# Altium schematic symbol library XSS_WirelessModule.SchLib: 17 symbols
Pins are listed as number, name and electrical type; pins without a type are passive.

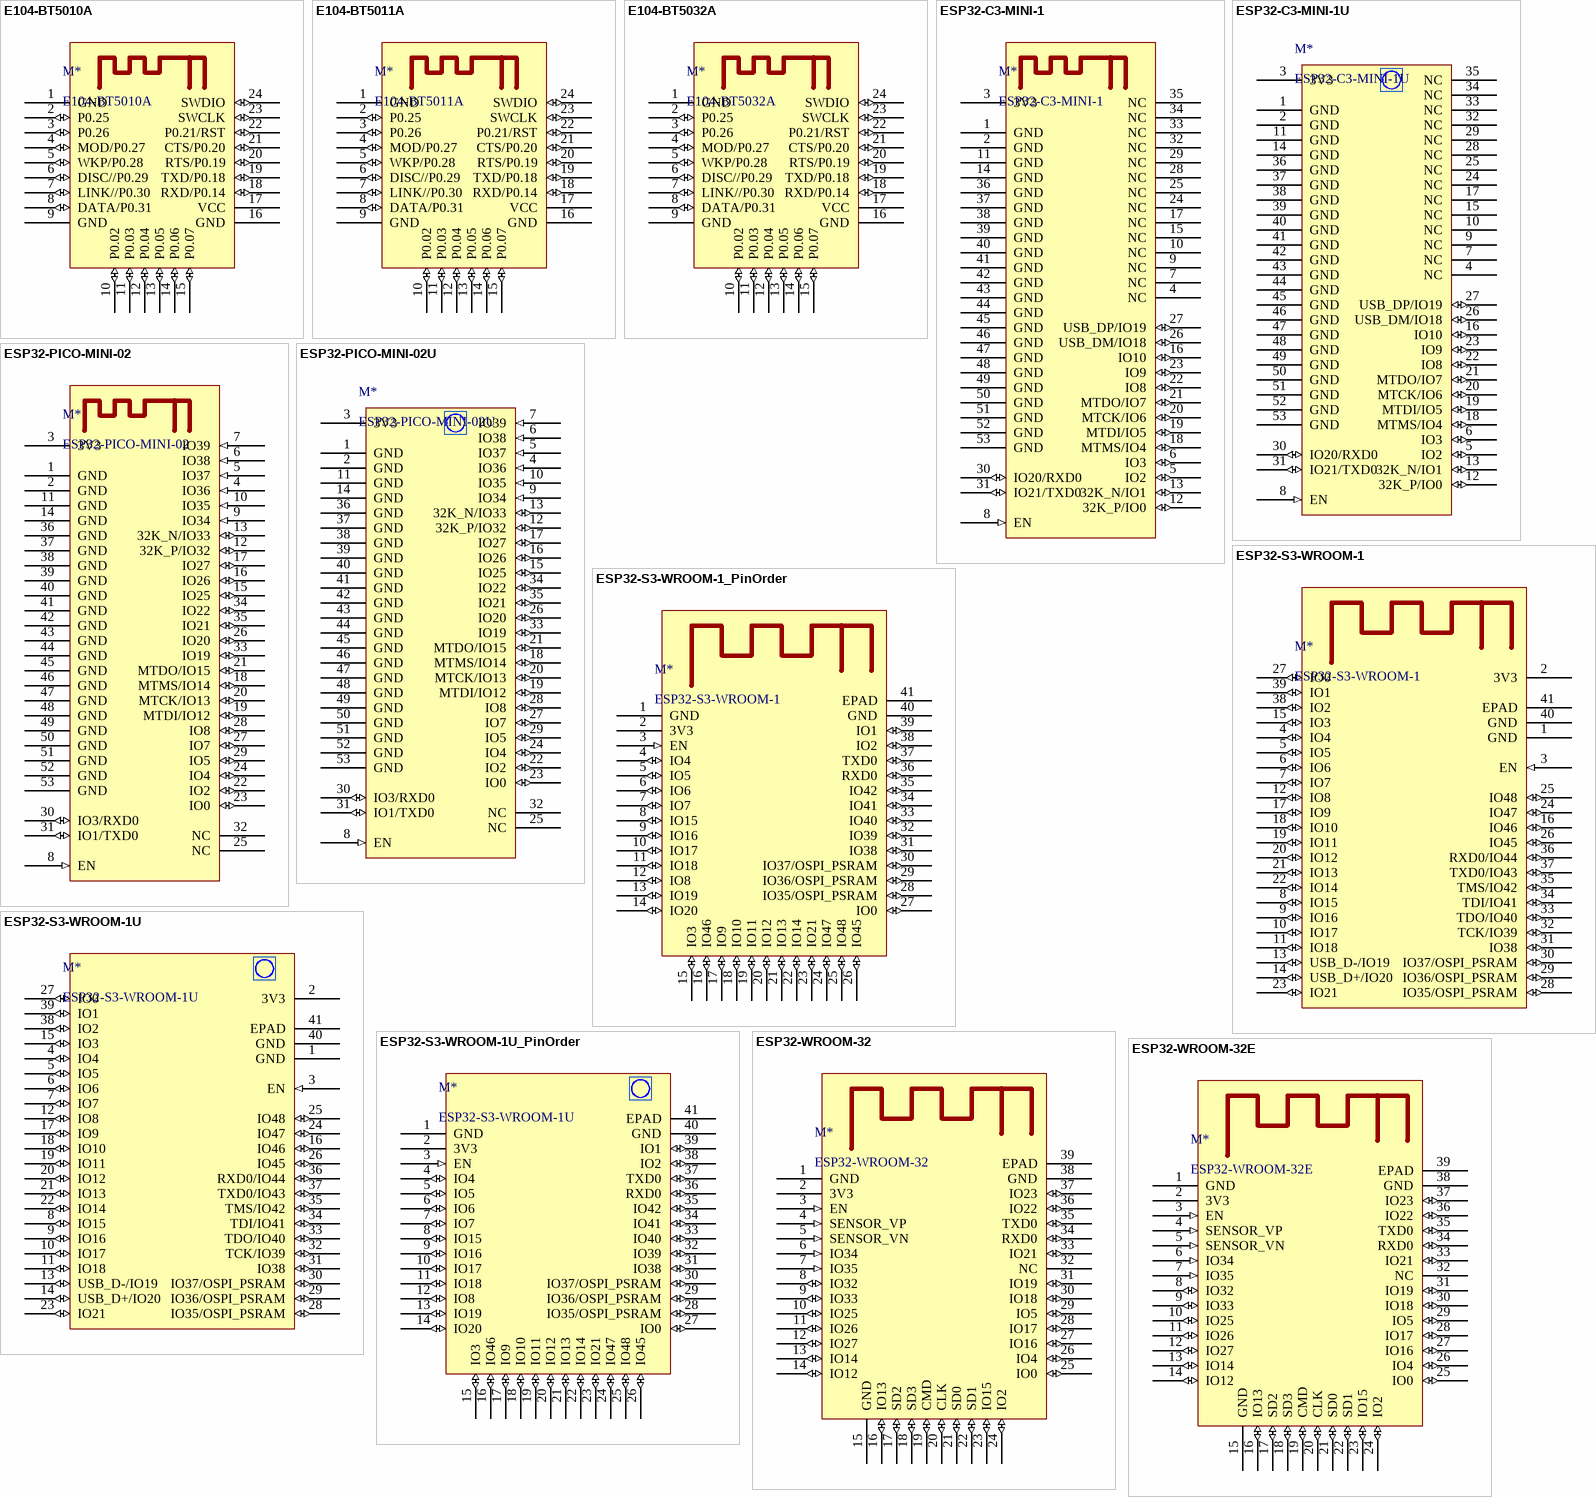
[diagram p0: symbols E104-BT5010A to ESP32-WROOM-32E]

## E104-BT5010A
designator M*
nrf52810 module. mode by EByte, E104-BT5010A, Wireless serial modules,11.5mm x 16mm
footprint E104-BT5010A (Ebyte,E104-BT5010A, NRF52810,11.5x16x2.32)
pins: 1 GND, 2 P0.25 (io), 3 P0.26 (io), 4 MOD/P0.27 (io), 5 WKP/P0.28 (io), 6 DISC//P0.29 (io), 7 LINK//P0.30 (io), 8 DATA/P0.31 (io), 9 GND, 10 P0.02 (io), 11 P0.03 (io), 12 P0.04 (io), 13 P0.05 (io), 14 P0.06 (io), 15 P0.07 (io), 16 GND, 17 VCC (power), 18 RXD/P0.14 (io), 19 TXD/P0.18 (io), 20 RTS/P0.19 (io), 21 CTS/P0.20 (io), 22 P0.21/RST (io), 23 SWCLK (io), 24 SWDIO (io)

## E104-BT5011A
designator M*
nrf52811 module. mode by EByte, E104-BT5011A, Wireless serial modules
footprint E104-BT5011A (Ebyte,E104-BT5011A, NRF52811,11.5x16x2.32)
footprint E104-BT5011A_Font (Ebyte,E104-BT5011A, NRF52811,11.5x16x2.32)
pins: 1 GND, 2 P0.25 (io), 3 P0.26 (io), 4 MOD/P0.27 (io), 5 WKP/P0.28 (io), 6 DISC//P0.29 (io), 7 LINK//P0.30 (io), 8 DATA/P0.31 (io), 9 GND, 10 P0.02 (io), 11 P0.03 (io), 12 P0.04 (io), 13 P0.05 (io), 14 P0.06 (io), 15 P0.07 (io), 16 GND, 17 VCC (power), 18 RXD/P0.14 (io), 19 TXD/P0.18 (io), 20 RTS/P0.19 (io), 21 CTS/P0.20 (io), 22 P0.21/RST (io), 23 SWCLK (io), 24 SWDIO (io)

## E104-BT5032A
designator M*
nrf52832 module. mode by EByte, E104-BT5032A, Wireless serial modules,11.5mm x 16mm
footprint E104-BT5032A (Ebyte,E104-BT5032A, NRF52832,11.5x16x2.32)
pins: 1 GND, 2 P0.25 (io), 3 P0.26 (io), 4 MOD/P0.27 (io), 5 WKP/P0.28 (io), 6 DISC//P0.29 (io), 7 LINK//P0.30 (io), 8 DATA/P0.31 (io), 9 GND, 10 P0.02 (io), 11 P0.03 (io), 12 P0.04 (io), 13 P0.05 (io), 14 P0.06 (io), 15 P0.07 (io), 16 GND, 17 VCC (power), 18 RXD/P0.14 (io), 19 TXD/P0.18 (io), 20 RTS/P0.19 (io), 21 CTS/P0.20 (io), 22 P0.21/RST (io), 23 SWCLK (io), 24 SWDIO (io)

## ESP32-C3-MINI-1
designator M*
ESP32-C3-MINI-1 is a general-purpose Wi-Fi and Bluetooth LE module. This module features a rich set of peripherals and a small size, which makes it an ideal choice for smart home, industrial automation, health care, consumer electronics, etc.
footprint ESP32-C3-MINI-1 (ESP32-C3-MINI-1 package, 13.2x16.6x2.4 , PCB Antenna,53 pins)
pins: 1 GND (power), 2 GND (power), 3 3V3 (power), 4 NC, 5 IO2 (io), 6 IO3 (io), 7 NC, 8 EN (in), 9 NC, 10 NC, 11 GND (power), 12 32K_P/IO0 (io), 13 32K_N/IO1 (io), 14 GND (power), 15 NC, 16 IO10 (io), 17 NC, 18 MTMS/IO4 (io), 19  MTDI/IO5 (io), 20 MTCK/IO6 (io), 21  MTDO/IO7 (io), 22 IO8 (io), 23 IO9 (io), 24 NC, 25 NC, 26  USB_DM/IO18 (io), 27  USB_DP/IO19 (io), 28 NC, 29 NC, 30 IO20/RXD0 (io), 31 IO21/TXD0 (io), 32 NC, 33 NC, 34 NC, 35 NC, 36 GND (power), 37 GND (power), 38 GND (power), 39 GND (power), 40 GND (power), 41 GND (power), 42 GND (power), 43 GND (power), 44 GND (power), 45 GND (power), 46 GND (power), 47 GND (power), 48 GND (power), 49 GND (power), 50 GND (power), 51 GND (power), 52 GND (power), 53 GND (power)

## ESP32-C3-MINI-1U
designator M*
ESP32-C3-MINI-1U is a powerful, generic Wi-Fi + Bluetooth LE MCU modules that have a single core CPU, a rich set of peripherals, and with an U.FL connector for external antenna. According to different chips integrated, ESP32-C3-MINI-1U has two variants operating in different ambient temperature. It is an ideal choice for smart homes, industrial automation, health care, consumer electronics, etc.
footprint ESP32-C3-MINI-1U (ESP32-C3-MINI-1U package, 13.2x12.5x2.4 , PCB Antenna)
pins: 1 GND (power), 2 GND (power), 3 3V3 (power), 4 NC, 5 IO2 (io), 6 IO3 (io), 7 NC, 8 EN (in), 9 NC, 10 NC, 11 GND (power), 12 32K_P/IO0 (io), 13 32K_N/IO1 (io), 14 GND (power), 15 NC, 16 IO10 (io), 17 NC, 18 MTMS/IO4 (io), 19  MTDI/IO5 (io), 20 MTCK/IO6 (io), 21  MTDO/IO7 (io), 22 IO8 (io), 23 IO9 (io), 24 NC, 25 NC, 26  USB_DM/IO18 (io), 27  USB_DP/IO19 (io), 28 NC, 29 NC, 30 IO20/RXD0 (io), 31 IO21/TXD0 (io), 32 NC, 33 NC, 34 NC, 35 NC, 36 GND (power), 37 GND (power), 38 GND (power), 39 GND (power), 40 GND (power), 41 GND (power), 42 GND (power), 43 GND (power), 44 GND (power), 45 GND (power), 46 GND (power), 47 GND (power), 48 GND (power), 49 GND (power), 50 GND (power), 51 GND (power), 52 GND (power), 53 GND (power)

## ESP32-PICO-MINI-02
designator M*
ESP32-PICO-MINI-02 is a small-sized powerful Wi-Fi+Bluetooth®+Bluetooth® LE MCU module. It is based on ESP32-PICO-V3-02, a System-in-Package (SiP) device, which integrates an 8 MB SPI flash, 2 MB SPI Pseudo static RAM (PSRAM) and 40 MHz oscillator. This module targets a wide variety of IoT applications, ranging from home automation, smart building, consumer electronics to industrial control, and it is suitable for intelligent speakers, speech recognition toys, intelligent gateway and Ethernet, etc.
footprint ESP32-PICO-MINI-02 (ESP32-PICO-MINI-02 package, 13.2x16.6x2.4 , PCB Antenna,53 pins)
pins: 1 GND (power), 2 GND (power), 3 3V3 (power), 4 IO36 (in), 5 IO37 (in), 6 IO38 (in), 7 IO39 (in), 8 EN (in), 9 IO34 (in), 10 IO35 (in), 11 GND (power), 12 32K_P/IO32 (io), 13 32K_N/IO33 (io), 14 GND (power), 15 IO25 (io), 16 IO26 (io), 17 IO27 (io), 18 MTMS/IO14 (io), 19 MTDI/IO12 (io), 20 MTCK/IO13 (io), 21 MTDO/IO15 (io), 22 IO2 (io), 23 IO0 (io), 24 IO4 (io), 25 NC, 26 IO20 (io), 27 IO7 (io), 28 IO8 (io), 29 IO5 (io), 30 IO3/RXD0 (io), 31 IO1/TXD0 (io), 32 NC, 33 IO19 (io), 34 IO22 (io), 35 IO21 (io), 36 GND (power), 37 GND (power), 38 GND (power), 39 GND (power), 40 GND (power), 41 GND (power), 42 GND (power), 43 GND (power), 44 GND (power), 45 GND (power), 46 GND (power), 47 GND (power), 48 GND (power), 49 GND (power), 50 GND (power), 51 GND (power), 52 GND (power), 53 GND (power)

## ESP32-PICO-MINI-02U
designator M*
ESP32-PICO-MINI-02U is a small-sized powerful Wi-Fi+Bluetooth®+Bluetooth® LE MCU module. It is based on ESP32-PICO-V3-02, a System-in-Package (SiP) device, which integrates an 8 MB SPI flash, 2 MB SPI Pseudo static RAM (PSRAM) and 40 MHz oscillator. This module targets a wide variety of IoT applications, ranging from home automation, smart building, consumer electronics to industrial control, and it is suitable for intelligent speakers, speech recognition toys, intelligent gateway and Ethernet, etc.
footprint ESP32-PICO-MINI-02U (ESP32-PICO-MINI-02U package, 13.2x11.2x2.4 , PCB Antenna)
pins: 1 GND (power), 2 GND (power), 3 3V3 (power), 4 IO36 (in), 5 IO37 (in), 6 IO38 (in), 7 IO39 (in), 8 EN (in), 9 IO34 (in), 10 IO35 (in), 11 GND (power), 12 32K_P/IO32 (io), 13 32K_N/IO33 (io), 14 GND (power), 15 IO25 (io), 16 IO26 (io), 17 IO27 (io), 18 MTMS/IO14 (io), 19 MTDI/IO12 (io), 20 MTCK/IO13 (io), 21 MTDO/IO15 (io), 22 IO2 (io), 23 IO0 (io), 24 IO4 (io), 25 NC, 26 IO20 (io), 27 IO7 (io), 28 IO8 (io), 29 IO5 (io), 30 IO3/RXD0 (io), 31 IO1/TXD0 (io), 32 NC, 33 IO19 (io), 34 IO22 (io), 35 IO21 (io), 36 GND (power), 37 GND (power), 38 GND (power), 39 GND (power), 40 GND (power), 41 GND (power), 42 GND (power), 43 GND (power), 44 GND (power), 45 GND (power), 46 GND (power), 47 GND (power), 48 GND (power), 49 GND (power), 50 GND (power), 51 GND (power), 52 GND (power), 53 GND (power)

## ESP32-S3-WROOM-1
designator M*
ESP32-S3-WROOM-1 is a powerful, generic Wi-Fi + Bluetooth LE MCU module that has a Dual core CPU, a rich set of peripherals, and provides acceleration for neural network computing and signal processing workloads. It is an ideal choice for a wide variety of application scenarios related to AI + Internet of Things (AIoT), such as wake word detection and speech commands recognition, face detection and recognition, smart home, smart appliance, smart control panel, smart speaker etc.
footprint ESP32-S3-WROOM-1 (Espressif ESP32-S3-WROOM-1 module,18x25.5x3.1)
pins: 1 GND (power), 2 3V3 (power), 3 EN (in), 4 IO4 (io), 5 IO5 (io), 6 IO6 (io), 7 IO7 (io), 8 IO15 (io), 9 IO16 (io), 10 IO17 (io), 11 IO18 (io), 12 IO8 (io), 13 USB_D-/IO19 (io), 14 USB_D+/IO20 (io), 15 IO3 (io), 16 IO46 (io), 17 IO9 (io), 18 IO10 (io), 19 IO11 (io), 20 IO12 (io), 21 IO13 (io), 22 IO14 (io), 23 IO21 (io), 24 IO47 (io), 25 IO48 (io), 26 IO45 (io), 27 IO0 (io), 28 IO35/OSPI_PSRAM (io), 29 IO36/OSPI_PSRAM (io), 30 IO37/OSPI_PSRAM (io), 31 IO38 (io), 32 TCK/IO39 (io), 33 TDO/IO40 (io), 34 TDI/IO41 (io), 35 TMS/IO42 (io), 36 RXD0/IO44 (io), 37 TXD0/IO43 (io), 38 IO2 (io), 39 IO1 (io), 40 GND (power), 41 EPAD (power)

## ESP32-S3-WROOM-1_PinOrder
designator M*, comment ESP32-S3-WROOM-1
ESP32-S3-WROOM-1 is a powerful, generic Wi-Fi + Bluetooth LE MCU module that has a Dual core CPU, a rich set of peripherals, and provides acceleration for neural network computing and signal processing workloads. It is an ideal choice for a wide variety of application scenarios related to AI + Internet of Things (AIoT), such as wake word detection and speech commands recognition, face detection and recognition, smart home, smart appliance, smart control panel, smart speaker etc.
footprint ESP32-S3-WROOM-1 (Espressif ESP32-S3-WROOM-1 module,18x25.5x3.1)
pins: 1 GND (power), 2 3V3 (power), 3 EN (in), 4 IO4 (io), 5 IO5 (io), 6 IO6 (io), 7 IO7 (io), 8 IO15 (io), 9 IO16 (io), 10 IO17 (io), 11 IO18 (io), 12 IO8 (io), 13 IO19 (io), 14 IO20 (io), 15 IO3 (io), 16 IO46 (io), 17 IO9 (io), 18 IO10 (io), 19 IO11 (io), 20 IO12 (io), 21 IO13 (io), 22 IO14 (io), 23 IO21 (io), 24 IO47 (io), 25 IO48 (io), 26 IO45 (io), 27 IO0 (io), 28 IO35/OSPI_PSRAM (io), 29 IO36/OSPI_PSRAM (io), 30 IO37/OSPI_PSRAM (io), 31 IO38 (io), 32 IO39 (io), 33 IO40 (io), 34 IO41 (io), 35 IO42 (io), 36 RXD0 (io), 37 TXD0 (io), 38 IO2 (io), 39 IO1 (io), 40 GND (power), 41 EPAD (power)

## ESP32-S3-WROOM-1U
designator M*
ESP32-S3-WROOM-1U is a powerful, generic Wi-Fi + Bluetooth LE MCU module that has a Dual core CPU, a rich set of peripherals, and provides acceleration for neural network computing and signal processing workloads. It is an ideal choice for a wide variety of application scenarios related to AI + Internet of Things (AIoT), such as wake word detection and speech commands recognition, face detection and recognition, smart home, smart appliance, smart control panel, smart speaker etc.
footprint ESP32-S3-WROOM-1U (Espressif ESP32-S3-WROOM-1U module,18x19.2x3.1)
pins: 1 GND (power), 2 3V3 (power), 3 EN (in), 4 IO4 (io), 5 IO5 (io), 6 IO6 (io), 7 IO7 (io), 8 IO15 (io), 9 IO16 (io), 10 IO17 (io), 11 IO18 (io), 12 IO8 (io), 13 USB_D-/IO19 (io), 14 USB_D+/IO20 (io), 15 IO3 (io), 16 IO46 (io), 17 IO9 (io), 18 IO10 (io), 19 IO11 (io), 20 IO12 (io), 21 IO13 (io), 22 IO14 (io), 23 IO21 (io), 24 IO47 (io), 25 IO48 (io), 26 IO45 (io), 27 IO0 (io), 28 IO35/OSPI_PSRAM (io), 29 IO36/OSPI_PSRAM (io), 30 IO37/OSPI_PSRAM (io), 31 IO38 (io), 32 TCK/IO39 (io), 33 TDO/IO40 (io), 34 TDI/IO41 (io), 35 TMS/IO42 (io), 36 RXD0/IO44 (io), 37 TXD0/IO43 (io), 38 IO2 (io), 39 IO1 (io), 40 GND (power), 41 EPAD (power)

## ESP32-S3-WROOM-1U_PinOrder
designator M*, comment ESP32-S3-WROOM-1U
ESP32-S3-WROOM-1 is a powerful, generic Wi-Fi + Bluetooth LE MCU module that has a Dual core CPU, a rich set of peripherals, and provides acceleration for neural network computing and signal processing workloads. It is an ideal choice for a wide variety of application scenarios related to AI + Internet of Things (AIoT), such as wake word detection and speech commands recognition, face detection and recognition, smart home, smart appliance, smart control panel, smart speaker etc.
footprint ESP32-S3-WROOM-1U (Espressif ESP32-S3-WROOM-1U module,18x19.2x3.1)
pins: 1 GND (power), 2 3V3 (power), 3 EN (in), 4 IO4 (io), 5 IO5 (io), 6 IO6 (io), 7 IO7 (io), 8 IO15 (io), 9 IO16 (io), 10 IO17 (io), 11 IO18 (io), 12 IO8 (io), 13 IO19 (io), 14 IO20 (io), 15 IO3 (io), 16 IO46 (io), 17 IO9 (io), 18 IO10 (io), 19 IO11 (io), 20 IO12 (io), 21 IO13 (io), 22 IO14 (io), 23 IO21 (io), 24 IO47 (io), 25 IO48 (io), 26 IO45 (io), 27 IO0 (io), 28 IO35/OSPI_PSRAM (io), 29 IO36/OSPI_PSRAM (io), 30 IO37/OSPI_PSRAM (io), 31 IO38 (io), 32 IO39 (io), 33 IO40 (io), 34 IO41 (io), 35 IO42 (io), 36 RXD0 (io), 37 TXD0 (io), 38 IO2 (io), 39 IO1 (io), 40 GND (power), 41 EPAD (power)

## ESP32-WROOM-32
designator M*
Espressif ESP32 module, 38pins
footprint ESP32-WROOM-32E (Espressif ESP32-WROOM-32E module,18x25.5x3.1)
footprint ESP32-COMPATIBLE (ESP32 package compatible with WROOM and WROVER)
pins: 1 GND (power), 2 3V3 (power), 3 EN (in), 4 SENSOR_VP (in), 5 SENSOR_VN (in), 6 IO34 (in), 7 IO35 (in), 8 IO32 (io), 9 IO33 (io), 10 IO25 (io), 11 IO26 (io), 12 IO27 (io), 13 IO14 (io), 14 IO12 (io), 15 GND (power), 16 IO13 (io), 17 SD2 (io), 18 SD3 (io), 19 CMD (io), 20 CLK (io), 21 SD0 (io), 22 SD1 (io), 23 IO15 (io), 24 IO2 (io), 25 IO0 (io), 26 IO4 (io), 27 IO16 (io), 28 IO17 (io), 29 IO5 (io), 30 IO18 (io), 31 IO19 (io), 32 NC, 33 IO21 (io), 34 RXD0 (io), 35 TXD0 (io), 36 IO22 (io), 37 IO23 (io), 38 GND (power), 39 EPAD

## ESP32-WROOM-32E
designator M*
Espressif ESP32 module, 38pins, antenna on board
footprint ESP32-WROOM-32E (Espressif ESP32-WROOM-32E module,18x25.5x3.1)
footprint ESP32-COMPATIBLE (ESP32 package compatible with WROOM and WROVER)
pins: 1 GND (power), 2 3V3 (power), 3 EN (in), 4 SENSOR_VP (in), 5 SENSOR_VN (in), 6 IO34 (in), 7 IO35 (in), 8 IO32 (io), 9 IO33 (io), 10 IO25 (io), 11 IO26 (io), 12 IO27 (io), 13 IO14 (io), 14 IO12 (io), 15 GND (power), 16 IO13 (io), 17 SD2 (io), 18 SD3 (io), 19 CMD (io), 20 CLK (io), 21 SD0 (io), 22 SD1 (io), 23 IO15 (io), 24 IO2 (io), 25 IO0 (io), 26 IO4 (io), 27 IO16 (io), 28 IO17 (io), 29 IO5 (io), 30 IO18 (io), 31 IO19 (io), 32 NC, 33 IO21 (io), 34 RXD0 (io), 35 TXD0 (io), 36 IO22 (io), 37 IO23 (io), 38 GND (power), 39 EPAD

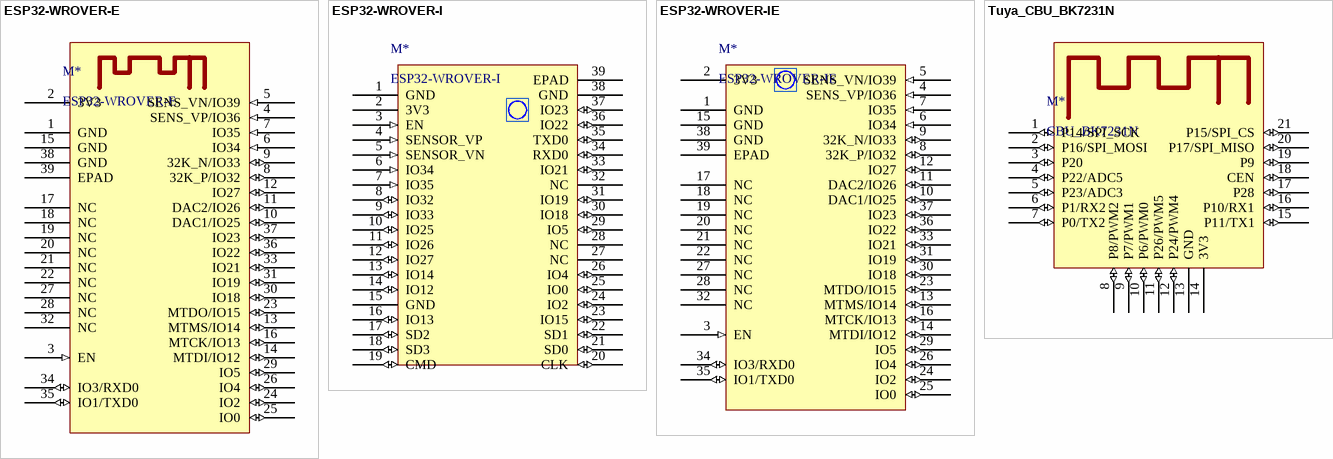
[diagram p1: symbols ESP32-WROVER-E to Tuya_CBU_BK7231N]

## ESP32-WROVER-E
designator M*
Espressif ESP32-WRIVER module with antarna on board, 38 Pins
footprint ESP32-WROVER-E (ESP32-WROVER-IE package, 18x31.4x3.3 ,Antenna on Board)
footprint ESP32-COMPATIBLE (ESP32 package compatible with WROOM and WROVER)
pins: 1 GND (power), 2 3V3 (power), 3 EN (in), 4 SENS_VP/IO36 (in), 5 SENS_VN/IO39 (in), 6 IO34 (in), 7 IO35 (in), 8 32K_P/IO32 (io), 9 32K_N/IO33 (io), 10 DAC1/IO25 (io), 11 DAC2/IO26 (io), 12 IO27 (io), 13 MTMS/IO14 (io), 14 MTDI/IO12 (io), 15 GND (power), 16 MTCK/IO13 (io), 17 NC, 18 NC, 19 NC, 20 NC, 21 NC, 22 NC, 23 MTDO/IO15 (io), 24 IO2 (io), 25 IO0 (io), 26 IO4 (io), 27 NC, 28 NC, 29 IO5 (io), 30 IO18 (io), 31 IO19 (io), 32 NC, 33 IO21 (io), 34 IO3/RXD0 (io), 35 IO1/TXD0 (io), 36 IO22 (io), 37 IO23 (io), 38 GND (power), 39 EPAD

## ESP32-WROVER-I
designator M*
Espressif ESP32-WROVER module with PET antarna
footprint ESP32-WROVER-IE (ESP32-WROVER-IE package, 18x31.4x3.3 ,IPEX)
footprint ESP32-COMPATIBLE (ESP32 package compatible with WROOM and WROVER)
pins: 1 GND (power), 2 3V3 (power), 3 EN (in), 4 SENSOR_VP (in), 5 SENSOR_VN (in), 6 IO34 (in), 7 IO35 (in), 8 IO32 (io), 9 IO33 (io), 10 IO25 (io), 11 IO26 (io), 12 IO27 (io), 13 IO14 (io), 14 IO12 (io), 15 GND (power), 16 IO13 (io), 17 SD2 (io), 18 SD3 (io), 19 CMD (io), 20 CLK (io), 21 SD0 (io), 22 SD1 (io), 23 IO15 (io), 24 IO2 (io), 25 IO0 (io), 26 IO4 (io), 27 NC, 28 NC, 29 IO5 (io), 30 IO18 (io), 31 IO19 (io), 32 NC, 33 IO21 (io), 34 RXD0 (io), 35 TXD0 (io), 36 IO22 (io), 37 IO23 (io), 38 GND (power), 39 EPAD

## ESP32-WROVER-IE
designator M*
Espressif ESP32-WROVER module with IPEX antarna, 38 Pins
footprint ESP32-WROVER-IE (ESP32-WROVER-IE package, 18x31.4x3.3 ,IPEX)
footprint ESP32-COMPATIBLE (ESP32 package compatible with WROOM and WROVER)
pins: 1 GND (power), 2 3V3 (power), 3 EN (in), 4 SENS_VP/IO36 (in), 5 SENS_VN/IO39 (in), 6 IO34 (in), 7 IO35 (in), 8 32K_P/IO32 (io), 9 32K_N/IO33 (io), 10 DAC1/IO25 (io), 11 DAC2/IO26 (io), 12 IO27 (io), 13 MTMS/IO14 (io), 14 MTDI/IO12 (io), 15 GND (power), 16 MTCK/IO13 (io), 17 NC, 18 NC, 19 NC, 20 NC, 21 NC, 22 NC, 23 MTDO/IO15 (io), 24 IO2 (io), 25 IO0 (io), 26 IO4 (io), 27 NC, 28 NC, 29 IO5 (io), 30 IO18 (io), 31 IO19 (io), 32 NC, 33 IO21 (io), 34 IO3/RXD0 (io), 35 IO1/TXD0 (io), 36 IO22 (io), 37 IO23 (io), 38 GND (power), 39 EPAD

## Tuya_CBU_BK7231N
designator M*, comment CBU_BK7231N
Tuya Wifi/Bluetooth DM Module. Core MCU is BK7231N
footprint Tuya_COB_BK7231
pins: 1 P14/SPI_SCK (io), 2 P16/SPI_MOSI (io), 3 P20 (io), 4 P22/ADC5 (io), 5 P23/ADC3 (io), 6 P1/RX2 (io), 7 P0/TX2 (io), 8 P8/PWM2 (io), 9 P7/PWM1 (io), 10 P6/PWM0 (io), 11 P26/PWM5 (io), 12 P24/PWM4 (io), 13 GND (power), 14 3V3 (power), 15 P11/TX1 (io), 16 P10/RX1 (io), 17 P28 (io), 18 CEN (io), 19 P9 (io), 20 P17/SPI_MISO (io), 21 P15/SPI_CS (io)